# Altium schematic symbol library Brduino.SCHLIB: 19 symbols
Pins are listed as number, name and electrical type; pins without a type are passive.

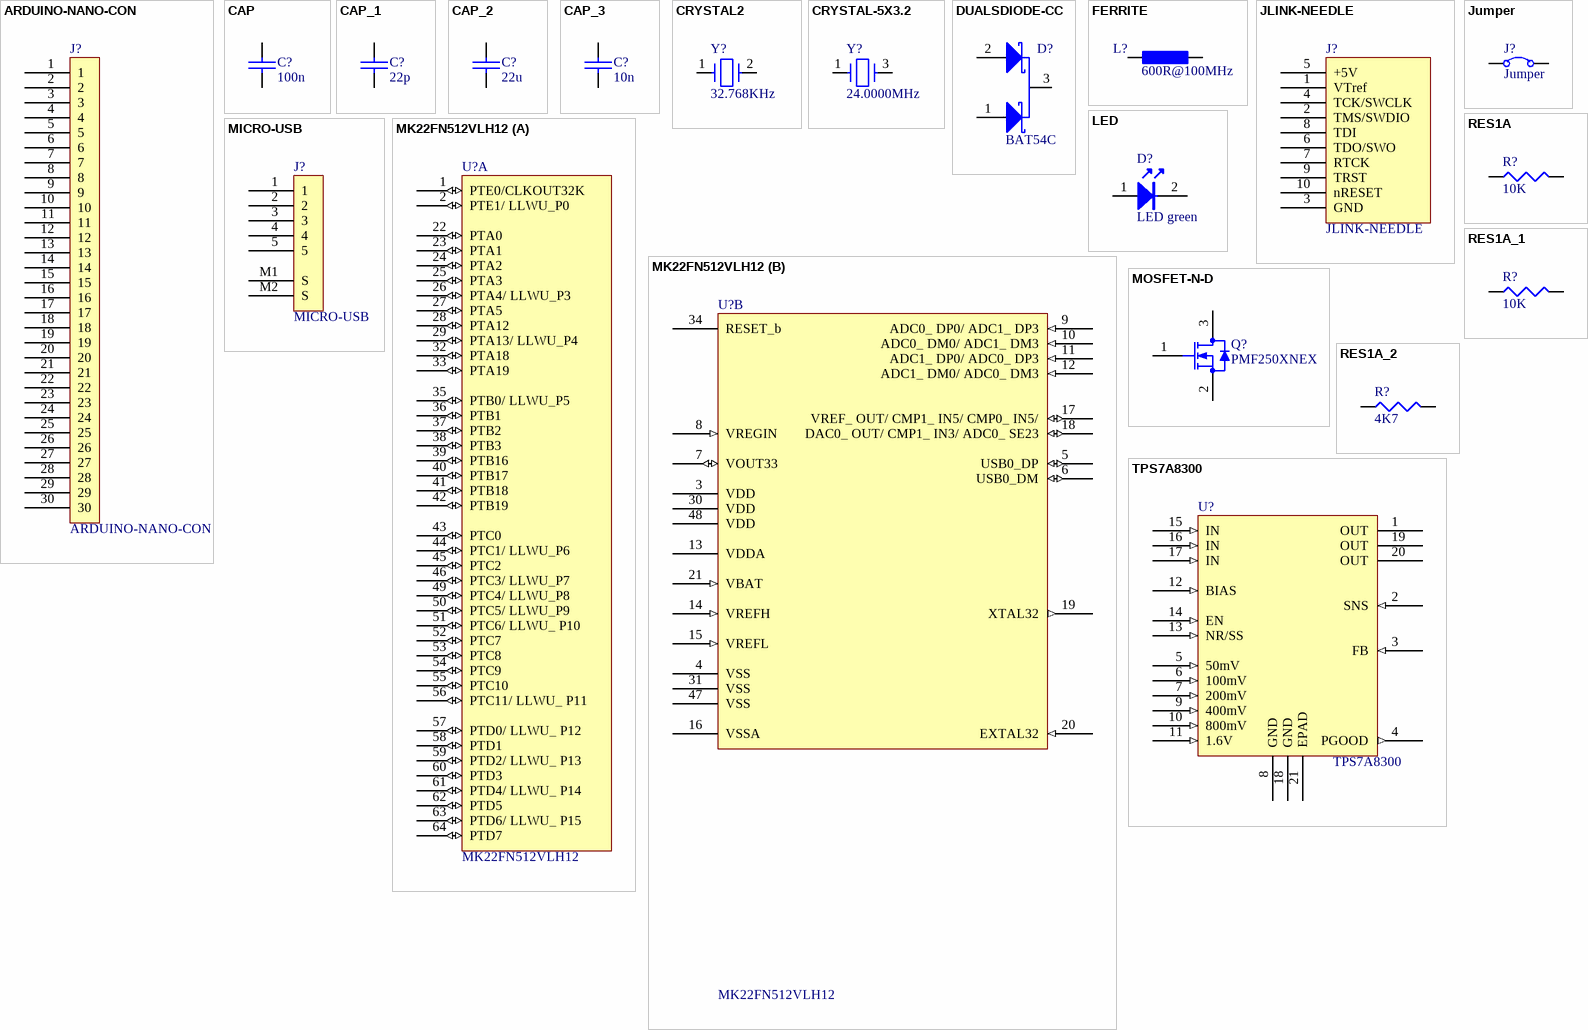
[diagram p0: symbols ARDUINO-NANO-CON to TPS7A8300]

## ARDUINO-NANO-CON
designator J?
POPULATED: yes
footprint ARDUINO-NANO
pins: 1, 2, 3, 4, 5, 6, 7, 8, 9, 10, 11, 12, 13, 14, 15, 16, 17, 18, 19, 20, 21, 22, 23, 24, 25, 26, 27, 28, 29, 30

## CAP
designator C?, comment 100n
POPULATED: yes; Parameters: X7R, 25V, 10%
footprint C0603 (Chip Capacitor; Body 1.6x0.8mm (LxW typ), IPC High Density)
footprint C0805 (Chip Capacitor; Body 2.0x1.3mm (LxW typ), IPC High Density)
footprint C1206 (Chip Capacitor; Body 3.2x1.6mm (LxW typ), IPC High Density)
footprint C1210 (Chip Capacitor; Body 3.2x2.5mm (LxW typ), IPC High Density)
footprint C1812 (Chip Capacitor; Body 4.5x3.2mm (LxW typ), IPC High Density)
footprint C1825 (Chip Capacitor; Body 4.5x6.4mm (LxW typ), IPC High Density)
footprint C0402 (Chip Capacitor; Body 1.0x0.5mm (LxW typ), IPC High Density)
pins: 1, 2
2 alternate drawings of the same symbol

## CAP_1
designator C?, comment 22p
POPULATED: yes; Parameters: C0G, 16V, 5%
footprint C0402 (Chip Capacitor; Body 1.0x0.5mm (LxW typ), IPC High Density)
footprint C0603 (Chip Capacitor; Body 1.6x0.8mm (LxW typ), IPC High Density)
footprint C0805 (Chip Capacitor; Body 2.0x1.3mm (LxW typ), IPC High Density)
footprint C1206 (Chip Capacitor; Body 3.2x1.6mm (LxW typ), IPC High Density)
footprint C1210 (Chip Capacitor; Body 3.2x2.5mm (LxW typ), IPC High Density)
footprint C1812 (Chip Capacitor; Body 4.5x3.2mm (LxW typ), IPC High Density)
footprint C1825 (Chip Capacitor; Body 4.5x6.4mm (LxW typ), IPC High Density)
pins: 1, 2
2 alternate drawings of the same symbol

## CAP_2
designator C?, comment 22u
MFR-PN: GRM21BR61A226ME44#; MFR: MURATA; Parameters: X5R, 10V, 10%; POPULATED: yes
footprint C0805 (Chip Capacitor; Body 2.0x1.3mm (LxW typ), IPC High Density)
footprint C0805-1.45
pins: 1, 2
2 alternate drawings of the same symbol

## CAP_3
designator C?, comment 10n
MFR-PN: GRM155R71H103KA88#; MFR: MURATA; POPULATED: yes; Parameters: X7R, 50V, 10%
footprint C0603 (Chip Capacitor; Body 1.6x0.8mm (LxW typ), IPC High Density)
footprint C0805 (Chip Capacitor; Body 2.0x1.3mm (LxW typ), IPC High Density)
footprint C1206 (Chip Capacitor; Body 3.2x1.6mm (LxW typ), IPC High Density)
footprint C1210 (Chip Capacitor; Body 3.2x2.5mm (LxW typ), IPC High Density)
footprint C1812 (Chip Capacitor; Body 4.5x3.2mm (LxW typ), IPC High Density)
footprint C1825 (Chip Capacitor; Body 4.5x6.4mm (LxW typ), IPC High Density)
footprint C0402 (Chip Capacitor; Body 1.0x0.5mm (LxW typ), IPC High Density)
footprint C0402-0.55
pins: 1, 2
2 alternate drawings of the same symbol

## CRYSTAL2
designator Y?, comment 32.768KHz
MFR: EUROQUARTZ; MFR-PN: PH32768S; POPULATED: yes
footprint FC
pins: 1, 2

## CRYSTAL-5X3.2
designator Y?, comment 24.0000MHz
MFR: EPSON; MFR-PN: FA-238 24.0000MB-C; Parameters: -20°C/+70°C, 50ppm, 18pF, 60ohms; POPULATED: yes
footprint EPSON-XTAL6 3.2mm x 5mm 4pin (Footprint not found)
pins: 1, 3

## DUALSDIODE-CC
designator D?, comment BAT54C
MFR: ONSEMI; POPULATED: yes; MFR-PN: BAT54C
footprint SOT23
pins: 1 A, 2 K, 3 C

## FERRITE
designator L?, comment 600R@100MHz
Ferrite Bead; MFR-PN: 742792040; MFR: WUERTH; Parameters: Idc=2A, Rdc=0.15R; POPULATED: yes
footprint L0805
pins: 1, 2

## JLINK-NEEDLE
designator J?  (no BOM)
POPULATED: yes
footprint JLINK-NEEDLE
pins: 1 VTref, 2 TMS/SWDIO, 3 GND, 4 TCK/SWCLK, 5 +5V, 6 TDO/SWO, 7 RTCK, 8 TDI, 9 TRST, 10 nRESET

## Jumper
designator J?  (no BOM)
POPULATED: yes
footprint JumperSMD (Chip Resistor, Body 1.6x0.8mm (LxW typ), IPC High Density)
pins: 1, 2

## LED
designator D?, comment LED green
MFR-PN: APHD1608LCGCK; MFR: KINGBRIGHT; POPULATED: yes; Parameters: If >= 2mA
footprint SMD 0.8x0.8 (Footprint not found)
footprint LED0603
pins: 1 A, 2 K

## MICRO-USB
designator J?  (no BOM)
MFR-PN: USB3080; MFR: GCT; POPULATED: yes
footprint Molex-0565790519
pins: 1, 2, 3, 4, 5, M1 S, M2 S

## MK22FN512VLH12
designator U?
MFR-PN: NXP; POPULATED: yes; MFR: MK22FN512VLH12
footprint NXP-SOT1699-1 (Footprint not found)
part A pins: 1 PTE0/CLKOUT32K (io), 2 PTE1/ LLWU_P0 (io), 22 PTA0 (io), 23 PTA1 (io), 24 PTA2 (io), 25 PTA3 (io), 26 PTA4/ LLWU_P3 (io), 27 PTA5 (io), 28 PTA12 (io), 29 PTA13/ LLWU_P4 (io), 32 PTA18 (io), 33 PTA19 (io), 35 PTB0/ LLWU_P5 (io), 36 PTB1 (io), 37 PTB2 (io), 38 PTB3 (io), 39 PTB16 (io), 40 PTB17 (io), 41 PTB18 (io), 42 PTB19 (io), 43 PTC0 (io), 44 PTC1/ LLWU_P6 (io), 45 PTC2 (io), 46 PTC3/ LLWU_P7 (io), 49 PTC4/ LLWU_P8 (io), 50 PTC5/ LLWU_P9 (io), 51 PTC6/ LLWU_ P10 (io), 52 PTC7 (io), 53 PTC8 (io), 54 PTC9 (io), 55 PTC10 (io), 56 PTC11/ LLWU_ P11 (io), 57 PTD0/ LLWU_ P12 (io), 58 PTD1 (io), 59 PTD2/ LLWU_ P13 (io), 60 PTD3 (io), 61 PTD4/ LLWU_ P14 (io), 62 PTD5 (io), 63 PTD6/ LLWU_ P15 (io), 64 PTD7 (io)
part B pins: 3 VDD (power), 4 VSS (power), 5 USB0_DP (io), 6 USB0_DM (io), 7 VOUT33 (io), 8 VREGIN (in), 9 ADC0_ DP0/ ADC1_ DP3 (in), 10 ADC0_ DM0/ ADC1_ DM3 (in), 11 ADC1_ DP0/ ADC0_ DP3 (in), 12 ADC1_ DM0/ ADC0_ DM3 (in), 13 VDDA (power), 14 VREFH (in), 15 VREFL (in), 16 VSSA (power), 17 VREF_ OUT/ CMP1_ IN5/ CMP0_ IN5/ (io), 18 DAC0_ OUT/ CMP1_ IN3/ ADC0_ SE23 (io), 19 XTAL32 (out), 20 EXTAL32 (in), 21 VBAT (in), 30 VDD (power), 31 VSS (power), 34 RESET_b (power), 47 VSS (power), 48 VDD (power)

## MOSFET-N-D
designator Q?, comment PMF250XNEX
N-Channel MOSFET; MFR: NEXPERIA; POPULATED: yes; MFR-PN: PMF250XNEX
footprint SOT323
pins: 1 G, 2 S, 3 D

## RES1A
designator R?, comment 10K
POPULATED: yes; Parameters: 1/16W, 50V, 1%
footprint R0402 (Chip Resistor, Body 1.1x0.5mm (LxW typ), IPC High Density)
footprint R0603 (Chip Resistor, Body 1.6x0.8mm (LxW typ), IPC High Density)
footprint R0805 (Chip Resistor, Body 2.0x1.3mm (LxW typ), IPC High Density)
footprint R1206 (Chip Resistor, Body 3.2x1.6mm (LxW typ), IPC High Density)
footprint R1210 (Chip Resistor, Body 3.2x2.5mm (LxW typ), IPC High Density)
footprint R2010 (Chip Resistor, Body 5.0x2.5mm (LxW typ), IPC High Density)
footprint R2512 (Chip Resistor, Body 6.3x3.2mm (LxW typ), IPC High Density)
footprint R0402 (Chip Resistor, Body 1.1x0.5mm (LxW typ), IPC High Density)
pins: 1, 2

## RES1A_1
designator R?, comment 10K
POPULATED: yes; Parameters: 1/16W, 50V, 1%
footprint R0402 (Chip Resistor, Body 1.1x0.5mm (LxW typ), IPC High Density)
footprint R0603 (Chip Resistor, Body 1.6x0.8mm (LxW typ), IPC High Density)
footprint R0805 (Chip Resistor, Body 2.0x1.3mm (LxW typ), IPC High Density)
footprint R1206 (Chip Resistor, Body 3.2x1.6mm (LxW typ), IPC High Density)
footprint R1210 (Chip Resistor, Body 3.2x2.5mm (LxW typ), IPC High Density)
footprint R2010 (Chip Resistor, Body 5.0x2.5mm (LxW typ), IPC High Density)
footprint R2512 (Chip Resistor, Body 6.3x3.2mm (LxW typ), IPC High Density)
pins: 1, 2

## RES1A_2
designator R?, comment 4K7
POPULATED: yes; Parameters: 1/16W, 50V, 1%
footprint R0402 (Chip Resistor, Body 1.1x0.5mm (LxW typ), IPC High Density)
footprint R0603 (Chip Resistor, Body 1.6x0.8mm (LxW typ), IPC High Density)
footprint R0805 (Chip Resistor, Body 2.0x1.3mm (LxW typ), IPC High Density)
footprint R1206 (Chip Resistor, Body 3.2x1.6mm (LxW typ), IPC High Density)
footprint R1210 (Chip Resistor, Body 3.2x2.5mm (LxW typ), IPC High Density)
footprint R2010 (Chip Resistor, Body 5.0x2.5mm (LxW typ), IPC High Density)
footprint R2512 (Chip Resistor, Body 6.3x3.2mm (LxW typ), IPC High Density)
footprint R0402-0.4
pins: 1, 2

## TPS7A8300
designator U?
MFR-PN: TPS7A8300RGWT; MFR: TI; POPULATED: yes
footprint S-PVQFN-N20 ((RGW) QFN 5mmx5mm, RM 0.65mm)
pins: 1 OUT (hiz), 2 SNS (in), 3 FB (in), 4 PGOOD (out), 5 50mV (in), 6 100mV (in), 7 200mV (in), 8 GND (power), 9 400mV (in), 10 800mV (in), 11 1.6V (in), 12 BIAS (in), 13 NR/SS (in), 14 EN (in), 15 IN (in), 16 IN (in), 17 IN (in), 18 GND (power), 19 OUT (hiz), 20 OUT (hiz), 21 EPAD